# Altium footprint library Common Devices.PcbLib: 28 footprints (part 1 of 2)
Each footprint in its own frame and in the unit in brackets; x right, y up, seen from the top. Pads: shape width x height; smd on the part's side, far side on the other; paste and mask are expansions set on the pad; w line width, h text height; cw(c..) or ccw(c..) is an arc to the next point about the centre after c.
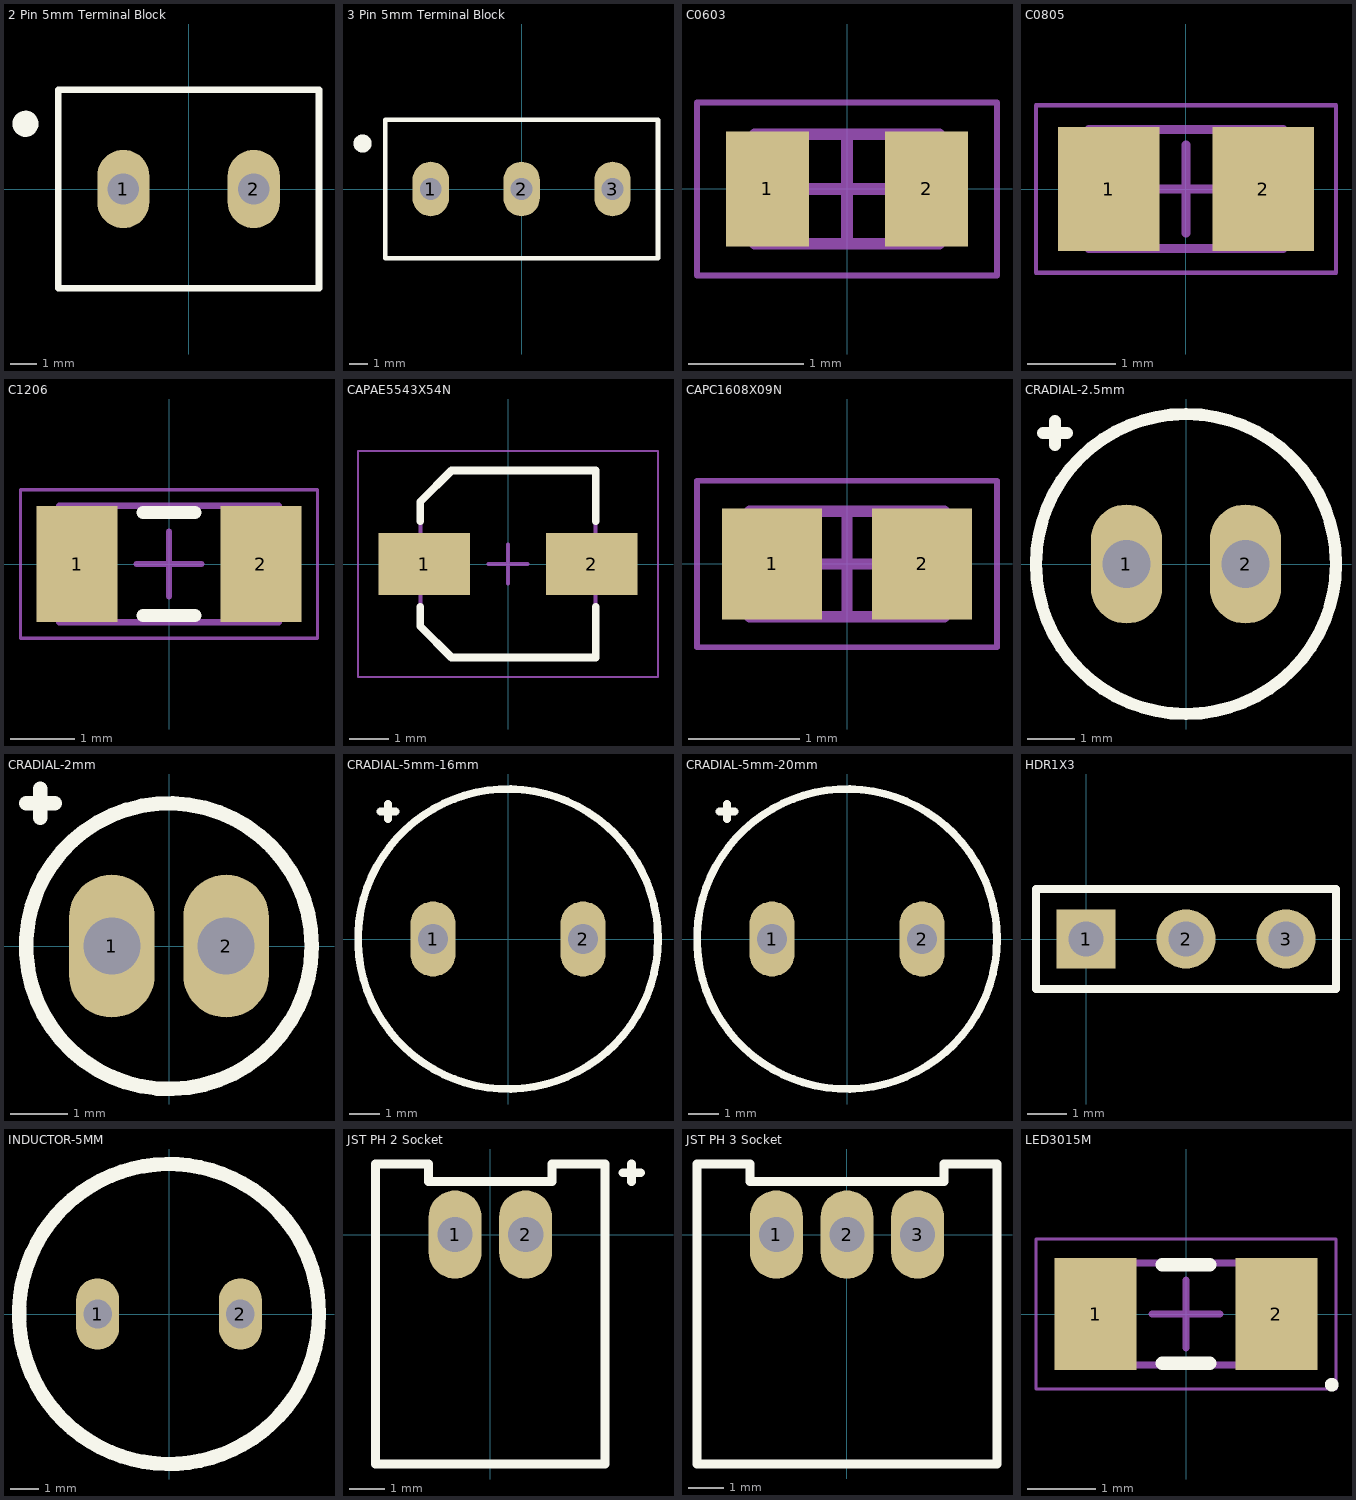
[diagram p0: the footprints below, top view; thin cyan lines are the x and y axes]

## 2 Pin 5mm Terminal Block [mm]
height 10
pads (2):
  oval 2x3 hole 1.2: 1(-2.5,0) 2(2.5,0)
Top Overlay:
  circle w0.5: c-6.25,2.5 r0.25
  lines w0.254: -5,-3.8 5,-3.8 5,3.8 0,3.8 -5,3.8 -5,-3.8
3D body: height 1, standoff -2, extent 2,-0.5 3,0.5
3D body: height 10, standoff 0.25, extent -5,-3.8 5,3.8
3D body: height 1, standoff -2, extent -3,-0.5 -2,0.5

## 3 Pin 5mm Terminal Block [mm]
height 10
pads (3):
  oval 2x3 hole 1.2: 1(-5,0) 2(0,0) 3(5,0)
Top Overlay:
  circle w0.5: c-8.75,2.5 r0.25
  lines w0.254: -7.5,-3.8 7.5,-3.8 7.5,3.8 -7.5,3.8 -7.5,-3.8
3D body: height 1, standoff -2, extent 4.5,-0.5 5.5,0.5
3D body: height 1, standoff -2, extent -0.5,-0.5 0.5,0.5
3D body: height 1, standoff -2, extent -5.5,-0.5 -4.5,0.5
3D body: height 10, standoff 0.25, extent -7.5,-3.8 7.5,3.8

## C0603 [mm] "Chip Capacitor, 2-Leads, Body 1,55x0,85mm, IPC Medium Density"
height 0.5
pads (2):
  rect 0.72x1 smd: 1(-0.69,0) 2(0.69,0)
Mechanical 13:
  lines w0.1: -0.8,-0.475 -0.8,0.475 0.8,0.475 0.8,-0.475 -0.8,-0.475
Mechanical 15:
  lines w0.05: -1.3,-0.75 -1.3,0.75 1.3,0.75 1.3,-0.75 -1.3,-0.75
  lines w0.1: -0.475,0 0.475,0 ; 0,-0.475 0,0.475
3D body: height 0.5, standoff 0, extent -0.5,-0.475 0.5,0.475
3D body: height 0.5, standoff 0, extent -0.8,-0.475 -0.5,0.475
3D body: height 0.5, standoff 0, extent 0.5,-0.475 0.8,0.475

## C0805 [mm] "Chip Capacitor, 2-Leads, Body 2,00x1,25mm, IPC Medium Density"
height 0.7
pads (2):
  rect 1.15x1.4 smd: 1(-0.875,0) 2(0.875,0)
Mechanical 13:
  lines w0.1: -1.1,-0.675 1.1,-0.675 1.1,0.675 -1.1,0.675 -1.1,-0.675
Mechanical 15:
  lines w0.05: -1.7,-0.95 1.7,-0.95 1.7,0.95 -1.7,0.95 -1.7,-0.95
  lines w0.1: -0.5,0 0.5,0 ; 0,-0.5 0,0.5
3D body: height 0.7, standoff 0, extent 0.7,-0.675 1.1,0.675
3D body: height 0.7, standoff 0, extent -1.1,-0.675 -0.7,0.675
3D body: height 0.7, standoff 0, extent -0.7,-0.675 0.7,0.675

## C1206 [mm] "Chip Capacitor, 2-Leads, Body 3,20x1,60mm, IPC Medium Density"
height 0.7
pads (2):
  rect 1.25x1.8 smd: 1(-1.425,0) 2(1.425,0)
Top Overlay:
  lines w0.2: -0.4,-0.8 0.4,-0.8 ; -0.4,0.8 0.4,0.8
Mechanical 13:
  lines w0.1: -1.7,-0.9 1.7,-0.9 1.7,0.9 -1.7,0.9 -1.7,-0.9
Mechanical 15:
  lines w0.05: -2.3,-1.15 2.3,-1.15 2.3,1.15 -2.3,1.15 -2.3,-1.15
  lines w0.1: -0.5,0 0.5,0 ; 0,-0.5 0,0.5
3D body: height 0.7, standoff 0, extent 1.2,-0.9 1.7,0.9
3D body: height 0.7, standoff 0, extent -1.7,-0.9 -1.2,0.9
3D body: height 0.7, standoff 0, extent -1.2,-0.9 1.2,0.9

## CAPAE5543X54N [mm] "Aluminum Electrolytic Capacitor, Body 3,95x4,30x5,40mm, IPC Medium Density"
height 5.4
pads (2):
  rect 2.35x1.6 smd: 1(-2.15,0) 2(2.15,0)
Top Overlay:
  lines w0.2: -2.25,-1.1 -2.25,-1.6 -1.45,-2.4 2.25,-2.4 2.25,-1.1 ; -2.25,1.1 -2.25,1.6 -1.45,2.4 2.25,2.4 2.25,1.1
Mechanical 13:
  lines w0.1: -2.25,-1.6 -1.45,-2.4 2.25,-2.4 2.25,2.4 -1.45,2.4 -2.25,1.6 -2.25,-1.6
Mechanical 15:
  lines w0.05: -3.85,-2.9 -3.85,2.9 3.85,2.9 3.85,-2.9 -3.85,-2.9
  lines w0.1: -0.5,0 0.5,0 ; 0,-0.5 0,0.5
3D body: height 1.8, standoff 0, extent -2.25,-2.4 2.25,2.4
3D body: height 5.4, standoff 0, extent -2.25,-2.25 2.232,2.241

## CAPC1608X09N [mm] "Chip Capacitor, 2-Leads, Body 1,60x0,80mm, IPC Medium Density"
height 0.9
pads (2):
  rect 0.9x1 smd: 1(-0.675,0) 2(0.675,0)
Mechanical 13:
  lines w0.1: -0.875,-0.475 0.875,-0.475 0.875,0.475 -0.875,0.475 -0.875,-0.475
Mechanical 15:
  lines w0.05: -1.35,-0.75 1.35,-0.75 1.35,0.75 -1.35,0.75 -1.35,-0.75
  lines w0.1: -0.475,0 0.475,0 ; 0,-0.475 0,0.475
3D body: height 0.9, standoff 0, extent 0.525,-0.475 0.875,0.475
3D body: height 0.9, standoff 0, extent -0.875,-0.475 -0.525,0.475
3D body: height 0.9, standoff 0, extent -0.525,-0.475 0.525,0.475

## CRADIAL-2.5mm [mm]
height 10
pads (2):
  oval 1.5x2.5 hole 1: 1(-1.25,0) 2(1.25,0)
Top Overlay:
  circle w0.254: c0,0 r3.15
  lines w0.254: -3,2.75 -2.75,2.75 -2.5,2.75 ; -2.75,2.5 -2.75,3
3D body: height 12, standoff 1, extent -3.144,-3.148 3.15,3.149
3D body: height 2, standoff -2, extent -1.648,-0.399 -0.85,0.4
3D body: height 2, standoff -2, extent 0.852,-0.399 1.65,0.4

## CRADIAL-2mm [mm]
height 10
pads (2):
  oval 1.5x2.5 hole 1: 1(-1,0) 2(1,0)
Top Overlay:
  circle w0.254: c0,0 r2.5
  lines w0.254: -2.5,2.5 -2.25,2.5 -2,2.5 ; -2.25,2.25 -2.25,2.75
3D body: height 1, standoff -2, extent 0.6,-0.4 1.4,0.4
3D body: height 1, standoff -2, extent -1.4,-0.4 -0.6,0.4
3D body: height 12, standoff 1, extent -2.494,-2.498 2.5,2.499

## CRADIAL-5mm-16mm [mm]
height 16
pads (2):
  oval 1.5x2.5 hole 1: 1(-2.5,0) 2(2.5,0)
Top Overlay:
  circle w0.254: c0,0 r5
  lines w0.254: -4.25,4.25 -3.75,4.25 ; -4,4 -4,4.5
3D body: height 1, standoff -2, extent 2.103,-0.399 2.9,0.399
3D body: height 1, standoff -2, extent -2.897,-0.399 -2.1,0.399
3D body: height 17, standoff 1, extent -4.96,-4.99 5,4.99

## CRADIAL-5mm-20mm [mm]
height 20
pads (2):
  oval 1.5x2.5 hole 1: 1(-2.5,0) 2(2.5,0)
Top Overlay:
  circle w0.254: c0,0 r5
  lines w0.254: -4.25,4.25 -3.75,4.25 ; -4,4 -4,4.5
3D body: height 21, standoff 1, extent -4.96,-4.99 5,4.99
3D body: height 1, standoff -2, extent -2.897,-0.399 -2.1,0.399
3D body: height 1, standoff -2, extent 2.103,-0.399 2.9,0.399

## HDR1X3 [mm] "Connector; Header; 3 Position"
pads (3):
  rect 1.5x1.5 hole 0.9: 1(0,0)
  round 1.5 hole 0.9: 2(2.54,0) 3(5.08,0)
Top Overlay:
  lines w0.2: -1.27,-1.27 -1.27,1.27 6.35,1.27 6.35,-1.27 -1.27,-1.27

## INDUCTOR-5MM [mm]
height 12
pads (2):
  oval 1.5x2.5 hole 1: 1(-2.5,0) 2(2.5,0)
Top Overlay:
  circle w0.5: c0,0 r5.25
3D body: height 12, standoff 10, extent -5.209,-5.239 5.25,5.24
3D body: height 10.5, standoff 2.5, extent -4.464,-4.491 4.5,4.491
3D body: height 2.5, standoff 0.5, extent -5.208,-5.239 5.25,5.24
3D body: height 0.5, standoff -3.5, extent 2.202,-0.299 2.8,0.3
3D body: height 0.5, standoff -3.5, extent -2.798,-0.299 -2.2,0.3

## JST PH 2 Socket [mm] "JST PH 2 Pin Socket"
height 5
pads (2):
  oval 1.5x2.5 hole 1: 1(-1,0) 2(1,0)
Top Overlay:
  lines w0.25: 3.75,1.75 4.25,1.75 ; 4,1.5 4,2 ; -3.25,-6.5 3.25,-6.5 3.25,2 1.75,2 1.75,1.5 -1.75,1.5 -1.75,2 -3.25,2 -3.25,-6.5
3D body: height 3.2, standoff -3, extent -1.25,-0.25 -0.75,0.25
3D body: height 3.2, standoff -3, extent 0.75,-0.25 1.25,0.25
3D body: height 1.5, standoff 0.8, extent -2,-6.25 2,0
3D body: height 4.8, standoff 0, extent 2,-6.25 3,1.75
3D body: height 4.8, standoff 0, extent -3,-6.25 -2,1.75
3D body: height 4.5, standoff 3.8, extent -2,-6.25 2,0
3D body: height 4.8, standoff 1, extent -2,-1 2,0
3D body: height 3.2, standoff 2.7, extent 0.75,-5.25 1.25,0.25
3D body: height 3.2, standoff 2.7, extent -1.25,-5.25 -0.75,0.25

## JST PH 3 Socket [mm] "JST PH 3 Pin Socket"
height 5
pads (3):
  oval 1.5x2.5 hole 1: 1(-2,0) 2(0,0) 3(2,0)
Top Overlay:
  lines w0.25: -4.25,-6.5 4.25,-6.5 4.25,2 2.75,2 2.75,1.5 -2.75,1.5 -2.75,2 -4.25,2 -4.25,-6.5
3D body: height 3.2, standoff -3, extent -2.25,-0.25 -1.75,0.25
3D body: height 3.2, standoff -3, extent -0.25,-0.25 0.25,0.25
3D body: height 1.5, standoff 0.8, extent -3,-6.25 3,0
3D body: height 4.8, standoff 0, extent 3,-6.25 4,1.75
3D body: height 4.8, standoff 0, extent -4,-6.25 -3,1.75
3D body: height 4.5, standoff 3.8, extent -3,-6.25 3,0
3D body: height 4.8, standoff 1, extent -3,-1 3,0
3D body: height 3.2, standoff 2.7, extent -0.25,-5.25 0.25,0.25
3D body: height 3.2, standoff 2.7, extent -2.25,-5.25 -1.75,0.25
3D body: height 3.2, standoff 2.7, extent 1.75,-5.25 2.25,0.25
3D body: height 3.2, standoff -3, extent 1.75,-0.25 2.25,0.25

## LED3015M [mm] "Chip Diode, 2-Leads, Body 3,00x1,50mm, IPC Medium Density"
height 1.4
pads (2):
  rect 1.2x1.65 smd: 1(-1.325,0) 2(1.325,0)
Top Overlay:
  circle w0.1: c2.137,-1.037 r0.05
  lines w0.2: -0.35,-0.725 0.35,-0.725 ; -0.35,0.725 0.35,0.725
Mechanical 13:
  lines w0.1: -1.5,-0.75 -1.5,0.75 1.5,0.75 1.5,-0.75 -1.5,-0.75
Mechanical 15:
  lines w0.05: -2.2,-1.1 -2.2,1.1 2.2,1.1 2.2,-1.1 -2.2,-1.1
  lines w0.1: -0.5,0 0.5,0 ; 0,-0.5 0,0.5
3D body: height 0.5, standoff 0, extent -0.8,-0.75 0.8,0.75
3D body: height 0.5, standoff 0, extent -1.5,-0.75 -0.8,0.75
3D body: height 0.5, standoff 0, extent 0.8,-0.75 1.5,0.75
3D body: height 0.9, standoff 0.5, extent -0.8,-0.75 0.8,0.75